# Altium schematic symbol library MAX3267CSA+.SchLib: 1 symbol
Pins are listed as number, name and electrical type; pins without a type are passive.

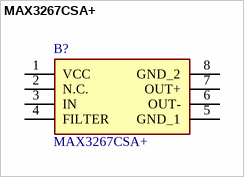
[diagram p0: symbol MAX3267CSA+]

## MAX3267CSA+
designator B?
The MAX3266 is a transimpedance preamplifier for 1.25Gbps local area network (LAN) fiber optic receivers. The circuit features 200nA input-referred noise, 920MHz bandwidth, and 1mA input overload.; Manufacturer_Name: Analog Devices; Geometry.Height: 1.75mm; Manufacturer_Part_Number: MAX3267CSA+; Mouser Part Number: *; Mouser Price/Stock: *; Arrow Part Number: *; Arrow Price/Stock: *; Datasheet Link: https://www.analog.com/media/en/technical-documentation/data-sheets/MAX3266-MAX3267.pdf
footprint SOIC127P600X175-8N
pins: 1 VCC, 2 N.C., 3 IN, 4 FILTER, 5 GND_1, 6 OUT-, 7 OUT+, 8 GND_2